# Altium schematic symbol library CBU模块转8266封装.SchLib: 2 symbols
Pins are listed as number, name and electrical type; pins without a type are passive.

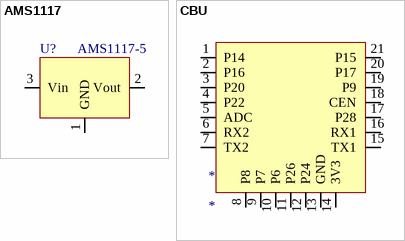
[diagram p0: symbols AMS1117 to CBU]

## AMS1117
designator U?, comment AMS1117-5
footprint SOT89
pins: 1 GND, 2 Vout, 3 Vin

## CBU
designator *
pins: 1 P14, 2 P16, 3 P20, 4 P22, 5 ADC, 6 RX2, 7 TX2, 8 P8, 9 P7, 10 P6, 11 P26, 12 P24, 13 GND, 14 3V3, 15 TX1, 16 RX1, 17 P28, 18 CEN "复位引脚", 19 P9, 20 P17, 21 P15